# EAGLE library part 212528-0801 (library SamacSys_Parts)
Micro-Fit+ Right-Angle Header, 3.00mm Pitch, Dual Row, 8 Circuits, UL 94V-0, Glow-Wire Capable, Black Source: Datasheet <https://www.molex.com/pdm_docs/sd/2125280200_sd.pdf>
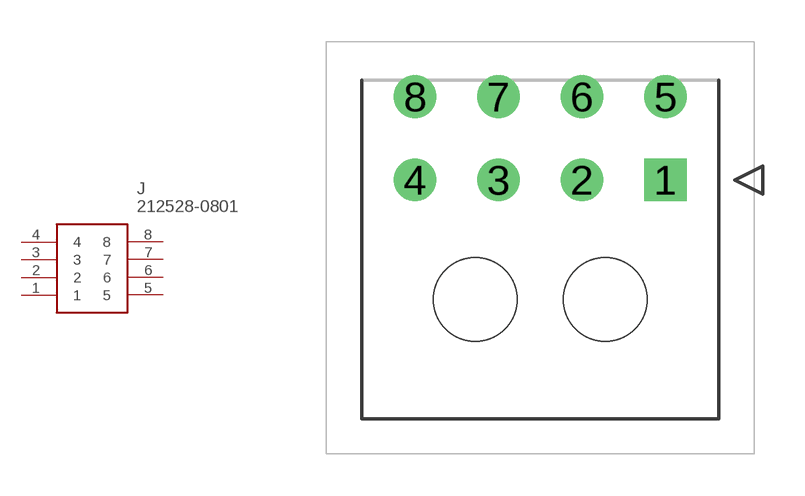
[diagram p0: symbol with the pads of 212528-08YY; footprint 212528-08YY]

Designator prefix J

## 212528-0801 (Description: Micro-Fit+ Right-Angle Header, 3.00mm Pitch, Dual Row, 8 Circuits, UL 94V-0, Glow-Wire Capable, Black; Height: 14mm; Manufacturer_Name: Molex; Manufacturer_Part_Number: 212528-0801; Mouser_Part_Number: 538-212528-0801; Mouser_Price-Stock: https://www.mouser.co.uk/ProductDetail/Molex/212528-0801?qs=W%2FMpXkg%252BdQ6GImXrcV4pVA%3D%3D)  [212528-08YY]
1  1
2  2
3  3
4  4
5  5
6  6
7  7
8  8

## Footprint 212528-08YY (pad centres in mm)
212528-08YY
drill 1.02 pad 1.52 square: 1 0,0
drill 1.02 pad 1.52: 2 -3,0; 3 -6,0; 4 -9,0; 5 0,3; 6 -3,3; 7 -6,3; 8 -9,3
hole 3 at -2.16,-4.3
hole 3 at -6.84,-4.3